# Altium schematic symbol library 2019-12-12_18-34-07.SchLib: 2 symbols
Pins are listed as number, name and electrical type; pins without a type are passive.

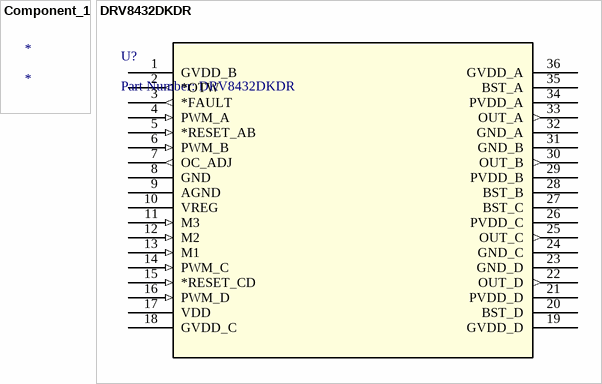
[diagram p0: symbols Component_1 to DRV8432DKDR]

## Component_1
designator *

## DRV8432DKDR
designator U?, comment Part Number: DRV8432DKDR
No Description Available; Manufacturer: Texas Instruments; Built_By: EMA_UL_Team; Vendor: Texas Instruments; Manufacturer_Part_Number: DRV8432DKDR; Copyright: Copyright (C) 2018 Accelerated Designs. All rights reserved; RefDes: RefDes; Type: DEV; Value: Value
footprint DKD36
pins: 1 GVDD_B (power), 2 *OTW (out), 3 *FAULT (out), 4 PWM_A (in), 5 *RESET_AB (in), 6 PWM_B (in), 7 OC_ADJ (out), 8 GND (power), 9 AGND (power), 10 VREG (power), 11 M3 (in), 12 M2 (in), 13 M1 (in), 14 PWM_C (in), 15 *RESET_CD (in), 16 PWM_D (in), 17 VDD (power), 18 GVDD_C (power), 19 GVDD_D (power), 20 BST_D (power), 21 PVDD_D (power), 22 OUT_D (out), 23 GND_D (power), 24 GND_C (power), 25 OUT_C (out), 26 PVDD_C (power), 27 BST_C (power), 28 BST_B (power), 29 PVDD_B (power), 30 OUT_B (out), 31 GND_B (power), 32 GND_A (power), 33 OUT_A (out), 34 PVDD_A (power), 35 BST_A (power), 36 GVDD_A (power)